# Altium schematic symbol library STUSB1700.SchLib: 1 symbol
Pins are listed as number, name and electrical type; pins without a type are passive.

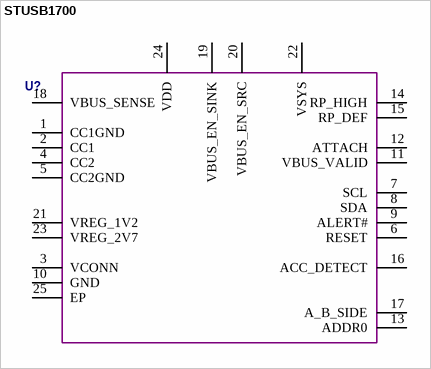
[diagram p0: symbol STUSB1700]

## STUSB1700
designator U?  (value not drawn)
pins: 1 CC1GND, 2 CC1, 3 VCONN, 4 CC2, 5 CC2GND, 6 RESET, 7 SCL, 8 SDA, 9 ALERT#, 10 GND, 11 VBUS_VALID, 12 ATTACH, 13 ADDR0, 14 RP_HIGH, 15 RP_DEF, 16 ACC_DETECT, 17 A_B_SIDE, 18 VBUS_SENSE, 19 VBUS_EN_SINK, 20 VBUS_EN_SRC, 21 VREG_1V2, 22 VSYS, 23 VREG_2V7, 24 VDD, 25 EP